# Altium footprint library CHS-01A.PcbLib: 1 footprints
Each footprint in its own frame and in the unit in brackets; x right, y up, seen from the top. Pads: shape width x height; smd on the part's side, far side on the other; paste and mask are expansions set on the pad; w line width, h text height; cw(c..) or ccw(c..) is an arc to the next point about the centre after c.
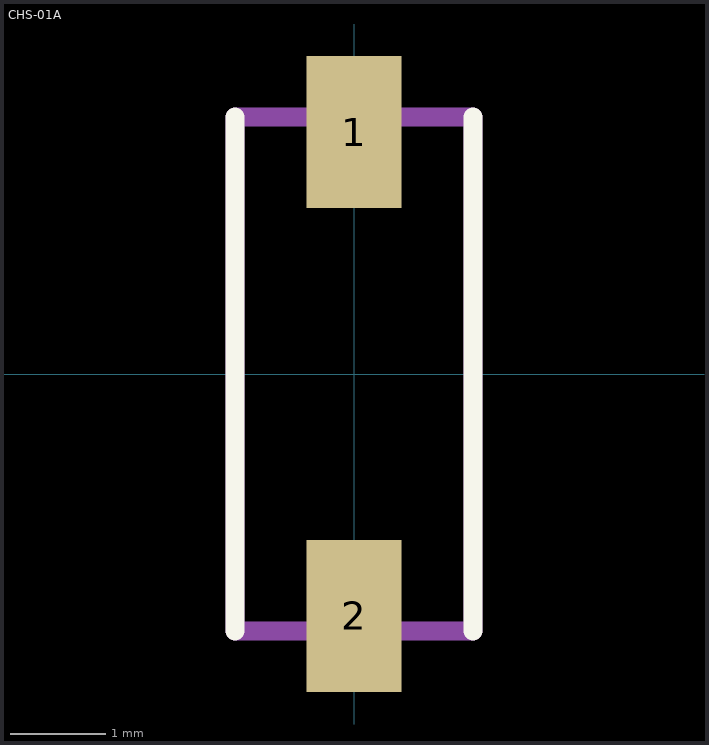
[diagram p0: the footprint, top view; thin cyan lines are the x and y axes]

## CHS-01A [mm]
pads (2):
  rect 1x1.6 smd: 1(0,2.54) 2(0,-2.54)
L26-Silk Screen Top (Multiple PADS layers...):
  lines w0.2: -1.25,-2.7 -1.25,2.7 ; 1.25,-2.7 1.25,2.7
L15 (Multiple PADS layers...):
  lines w0.2: -1.25,-2.7 1.25,-2.7 1.25,2.7 -1.25,2.7 -1.25,-2.7